# Altium footprint library MyPcbLib.PcbLib: 42 footprints (part 3 of 3)
Each footprint in its own frame and in the unit in brackets; x right, y up, seen from the top. Pads: shape width x height; smd on the part's side, far side on the other; paste and mask are expansions set on the pad; w line width, h text height; cw(c..) or ccw(c..) is an arc to the next point about the centre after c.
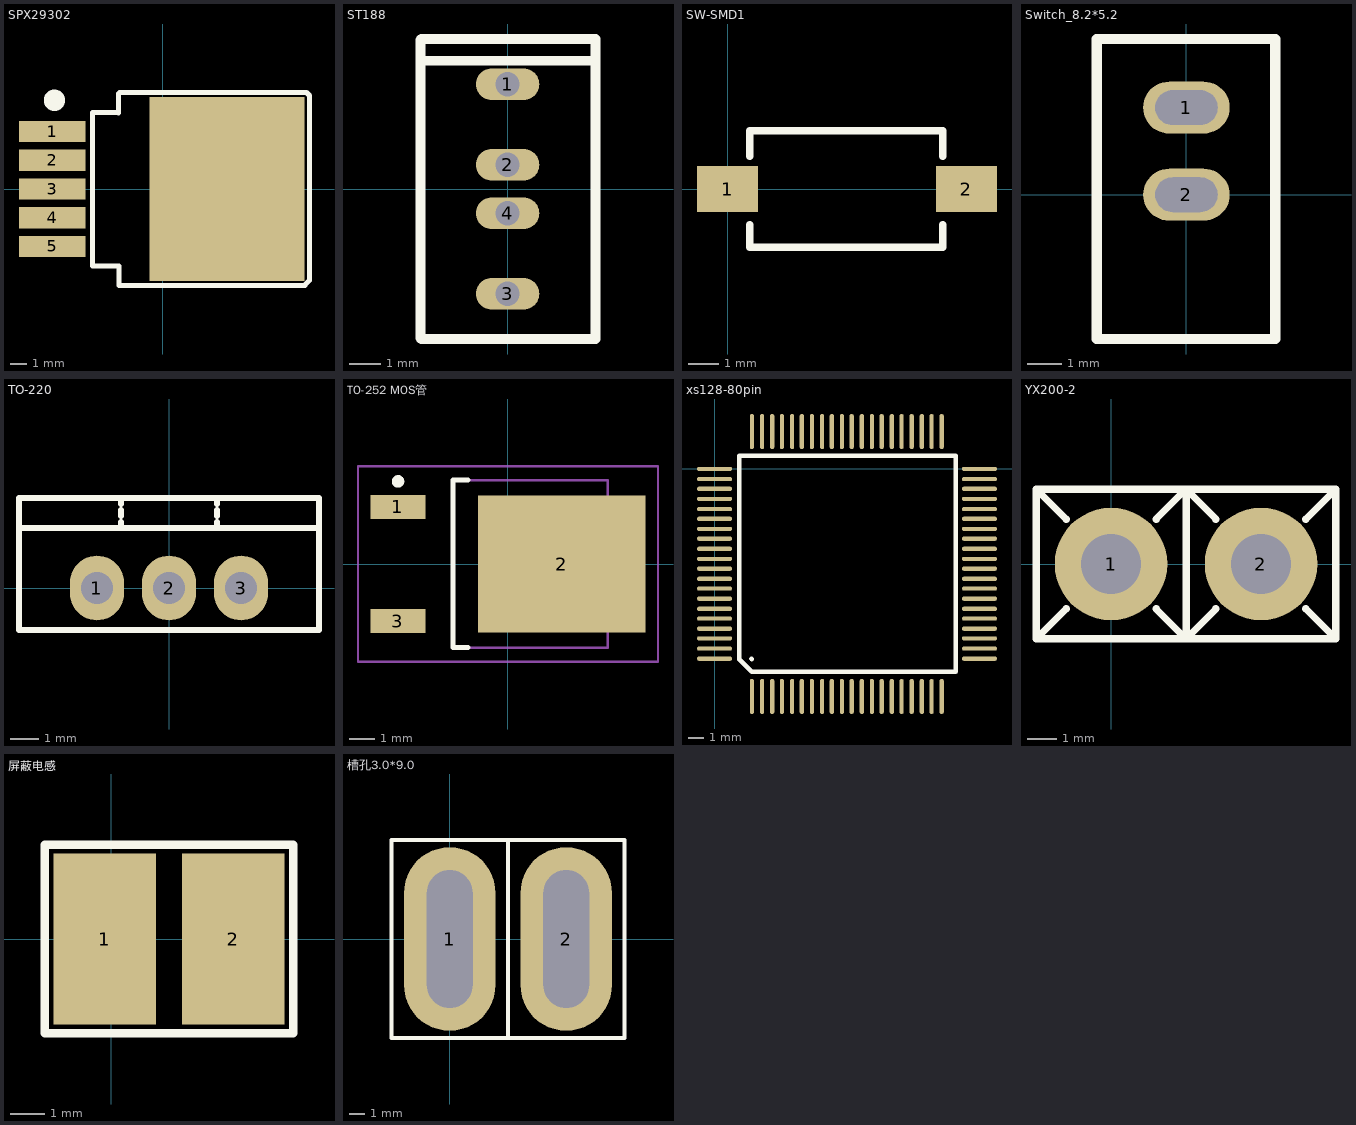
[diagram p2: the footprints below, top view; thin cyan lines are the x and y axes]

## SPX29302 [mm]
pads (6):
  rect 3.95x1.25 smd: 1(-6.551,3.429) 2(-6.551,1.727) 3(-6.551,0.025) 4(-6.551,-1.677) 5(-6.551,-3.379)
  rect 9.2x10.9 smd: ""(3.799,0.025)
Top Overlay:
  circle w1: c-6.426,5.283 r0.125
  lines w0.3: -2.667,4.547 -4.166,4.547 -4.166,-4.547 -2.591,-4.547 -2.591,-5.69 ; -2.642,4.521 -2.642,5.69 ; -2.565,-5.69 8.407,-5.69 ; -2.565,5.74 8.509,5.74 8.687,5.563 8.687,-5.385 8.407,-5.664

## ST188 [mil]
pads (4):
  oval 78.74x39.37 hole 30: 1(0,130) 2(0,30) 3(0,-130) 4(0,-30)
Top Overlay:
  lines w11.81: -106,159 107,159 ; -108,-185 -107,-186 109,-186 109,186 -107,186 -108,185 -108,-185

## SW-SMD1 [mm]
pads (2):
  rect 2x1.5 smd: 1(0,0) 2(7.8,0)
Top Overlay:
  lines w0.254: 0.725,-1.168 0.725,-1.9 7.025,-1.9 7.025,-1.168 ; 0.725,1.067 0.725,1.9 7.025,1.9 7.025,1.067
3D body: height 2.5, standoff 0, extent -0.059,-1.945 7.831,1.905

## Switch_8.2*5.2 [mm]
pads (2):
  oval 2.5x1.5 hole 1 slot 1.8 at 0 deg: 1(0,2.515) 2(0,0)
Top Overlay:
  lines w0.3: -2.591,-4.166 2.565,-4.166 2.565,4.496 -2.591,4.496 -2.591,-4.166

## TO-220 [mil]
pads (3):
  oval 75x90 hole 45: 1(-100,0) 2(0,0) 3(100,0)
Top Overlay:
  lines w7.87: -66.67,83.33 -66.67,91.67 ; -66.67,100 -66.67,108.33 ; -66.67,116.67 -66.67,125 ; 66.67,83.33 66.67,91.67 ; 66.67,100 66.67,108.33 ; 66.67,116.67 66.67,125 ; -208.33,83.33 -208.33,125 208.33,125 208.33,83.33 ; -208.33,83.33 -208.33,-58.33 208.33,-58.33 208.33,83.33 ; -208.33,83.33 208.33,83.33
3D body: height 728.35, standoff -401.57, extent -205,-55 205.24,120.59

## TO-252 MOS管 [mm]
pads (3):
  rect 2.2x0.95 smd: 1(-4.4,2.28) 3(-4.4,-2.28)
  rect 6.7x5.5 smd: 2(2.15,0)
Top Overlay:
  circle w0.25: c-4.4,3.305 r0.125
  lines w0.2: -1.6,-3.35 -2.2,-3.35 -2.2,3.35 -1.6,3.35
Mechanical 13:
  lines w0.1: -2.2,-3.35 -2.2,3.35 4,3.35 4,-3.35 -2.2,-3.35
Mechanical 15:
  lines w0.1: -0.5,0 0.5,0 ; 0,-0.5 0,0.5 ; -6,-3.9 -6,3.9 6,3.9 6,-3.9 -6,-3.9
3D body: height 2.39, standoff -0.02, extent -4.9,-3.27 5.038,3.27

## xs128-80pin [mil]
pads (80):
  oval 11x90 smd: 1(96,-584) 2(122,-584) 3(148,-584) 4(173,-584) 5(199,-584) 6(224,-584) 7(250,-584) 8(276,-584) 9(301,-584) 10(327,-584) 11(352,-584) 12(378,-584) 13(404,-584) 14(429,-584) 15(455,-584) 16(480,-584) 17(506,-584) 18(532,-584) 19(557,-584) 20(583,-584) 41(583,96) 42(557,96) 43(532,96) 44(506,96) 45(480,96) 46(455,96) 47(429,96) 48(404,96) 49(378,96) 50(352,96) 51(327,96) 52(301,96) 53(276,96) 54(250,96) 55(224,96) 56(199,96) 57(173,96) 58(148,96) 59(122,96) 60(96,96)
  oval 90x11 smd: 21(680,-487) 22(680,-461) 23(680,-435) 24(680,-410) 25(680,-384) 26(680,-359) 27(680,-333) 28(680,-307) 29(680,-282) 30(680,-256) 31(680,-231) 32(680,-205) 33(680,-179) 34(680,-154) 35(680,-128) 36(680,-103) 37(680,-77) 38(680,-51) 39(680,-26) 40(680,0) 61(0,0) 62(0,-26) 63(0,-51) 64(0,-77) 65(0,-103) 66(0,-128) 67(0,-154) 68(0,-179) 69(0,-205) 70(0,-231) 71(0,-256) 72(0,-282) 73(0,-307) 74(0,-333) 75(0,-359) 76(0,-384) 77(0,-410) 78(0,-435) 79(0,-461) 80(0,-487)
Top Overlay:
  lines w11.81: 63,-489 63,-487 ; 95,-487 96,-488 ; 618,34 63,34 63,-488 96,-521 619,-521 619,34

## YX200-2 [mil]
pads (2):
  round 150 hole 80: 1(0,0) 2(200,0)
Top Overlay:
  lines w10: -60,-60 -100,-100 ; -60,60 -100,100 ; 60,-60 100,-100 ; 60,60 100,100 ; 140,-60 100,-100 ; 140,60 100,100 ; 260,-60 300,-100 ; 260,60 300,100 ; -100,-100 -100,100 ; -100,-100 300,-100 ; -100,100 300,100 ; 100,-100 100,100 ; 300,-100 300,100

## 屏蔽电感 [mm]
pads (2):
  rect 3x5 smd: 1(-0.193,0) 2(3.557,0)
Top Overlay:
  lines w0.254: -1.943,-2.75 5.307,-2.75 5.307,2.75 -1.943,2.75 -1.943,-2.75
3D body: height 5, standoff -0.05, extent -2.169,-3.393 5.623,3.607

## 槽孔3.0*9.0 [mm]
pads (2):
  oval 6x12 hole 3 slot 9 at 90 deg: 1(0,0) 2(7.62,0)
Top Overlay:
  lines w0.254: 3.81,-6.477 3.81,6.477 ; -3.81,-6.477 -3.81,6.477 11.43,6.477 11.43,-6.477 -3.81,-6.477